# Altium schematic symbol library RP2040LED.SchLib: 7 symbols
Pins are listed as number, name and electrical type; pins without a type are passive.

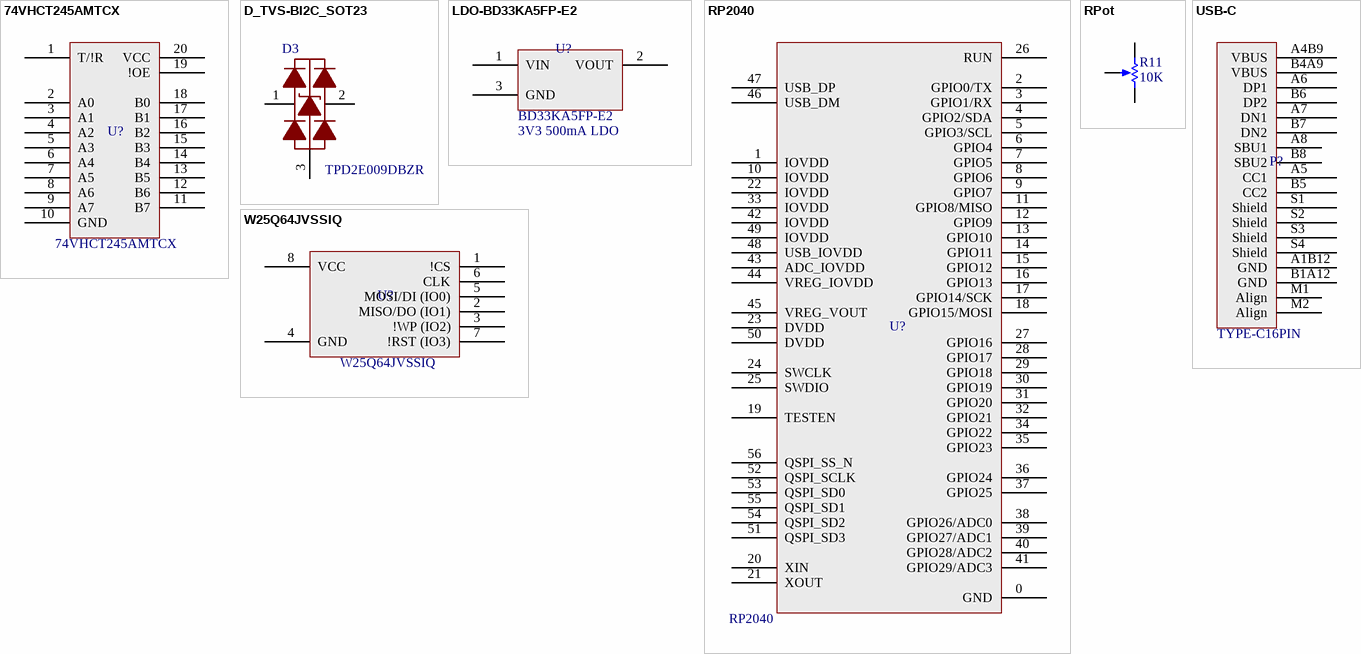
[diagram p0: symbols 74VHCT245AMTCX to W25Q64JVSSIQ]

## 74VHCT245AMTCX
designator U?
level shifter; MFG: onsemi; JLC PN: C903431; MPN: 74VHCT245AMTCX
footprint 20-TSSOP-74VHCT245AMTCX (onsemi level shifter)
pins: 1 T/!R, 2 A0, 3 A1, 4 A2, 5 A3, 6 A4, 7 A5, 8 A6, 9 A7, 10 GND, 11 B7, 12 B6, 13 B5, 14 B4, 15 B3, 16 B2, 17 B1, 18 B0, 19 !OE, 20 VCC

## D_TVS-BI2C_SOT23
designator D3  DK MPN: TPD2E009DBZR  (hidden comment: D_TVS-BI2C_SOT23)
IC ESD-Protection ARRAY Dual High Speed SOT23-3; Value: 5.5V; Rating: 45W 8KV; Title: IC ESD-Protection ARRAY Dual High Speed SOT23-3; JLC PN: C2871371; MPN: TPD2E009DBZR; JLC MPN: TPD2E009DBZR
footprint SOT23
footprint SOT23-3-TPD2E009DBZR
pins: 1 D+, 2 D-, 3 GND (power)

## LDO-BD33KA5FP-E2
designator U?  JLC MPN: BD33KA5FP-E2  Note: 3V3 500mA LDO
500mA 50dB@(120Hz) Fixed 3.3V Positive 5.5V TO-252; JLC PN: C161949; Voltage: 3.3V
footprint TO-252-3-BD33KA5FP-E2 (3V3 LDO Rohm)
pins: 1 VIN, 2 VOUT, 3 GND

## RP2040
designator U?  MPN: RP2040
RPi RP2040 133MHz 32bit dual core 30 I/O 264K x8 4x12bit ADC; JLC PN: C2040
footprint 56-QFN-RP2040 (7x7mm)
pins: 0 GND, 1 IOVDD, 2 GPIO0/TX, 3 GPIO1/RX, 4 GPIO2/SDA, 5 GPIO3/SCL, 6 GPIO4, 7 GPIO5, 8 GPIO6, 9 GPIO7, 10 IOVDD, 11 GPIO8/MISO, 12 GPIO9, 13 GPIO10, 14 GPIO11, 15 GPIO12, 16 GPIO13, 17 GPIO14/SCK, 18 GPIO15/MOSI, 19 TESTEN, 20 XIN, 21 XOUT, 22 IOVDD, 23 DVDD, 24 SWCLK, 25 SWDIO, 26 RUN, 27 GPIO16, 28 GPIO17, 29 GPIO18, 30 GPIO19, 31 GPIO20, 32 GPIO21, 33 IOVDD, 34 GPIO22, 35 GPIO23, 36 GPIO24, 37 GPIO25, 38 GPIO26/ADC0, 39 GPIO27/ADC1, 40 GPIO28/ADC2, 41 GPIO29/ADC3, 42 IOVDD, 43 ADC_IOVDD, 44 VREG_IOVDD, 45 VREG_VOUT, 46 USB_DM, 47 USB_DP, 48 USB_IOVDD, 49 IOVDD, 50 DVDD, 51 QSPI_SD3, 52 QSPI_SCLK, 53 QSPI_SD0, 54 QSPI_SD2, 55 QSPI_SD1, 56 QSPI_SS_N

## RPot
designator R11  value 10K  (hidden comment: RPot)  (no BOM)
Potentiometer; MFG: WMYCONGCONG; DK 3D model: PDB181-E420F-103B1; link: https://www.amazon.ca/dp/B07B64MWRF/ref=sspa_dk_detail_4?
simulation model POT (Potentiometer)
footprint TrimPot (Amazon WMYCONGCONG WH148)
footprint TrimPot-ext-Knob (Amazon WMYCONGCONG WH148)
pins: 1 TOP, 2 BOT, 3 TAP
1 alternate drawing of the same symbol

## USB-C
designator P?  MPN: TYPE-C16PIN  (hidden comment: USB-C)
Type-C 3A 16P; JLC PN: C393939
footprint USB-TYPE-C16PIN (JLC C393939 Shou Han)
pins: A1B12 GND, A4B9 VBUS, A5 CC1, A6 DP1, A7 DN1, A8 SBU1, B1A12 GND, B4A9 VBUS, B5 CC2, B6 DP2, B7 DN2, B8 SBU2, M1 Align, M2 Align, S1 Shield, S2 Shield, S3 Shield, S4 Shield

## W25Q64JVSSIQ
designator U?  MPN: W25Q64JVSSIQ
SPI Flash; JLC PN: C179171
footprint 8-SOIC-W25Q64JVSSIQ (QSPI flash for RP2040 Winbond)
pins: 1 !CS, 2 MISO/DO (IO1), 3 !WP (IO2), 4 GND, 5 MOSI/DI (IO0), 6 CLK, 7 !RST (IO3), 8 VCC